# Altium footprint library AHT30.PcbLib: 1 footprints
Each footprint in its own frame and in the unit in brackets; x right, y up, seen from the top. Pads: shape width x height; smd on the part's side, far side on the other; paste and mask are expansions set on the pad; w line width, h text height; cw(c..) or ccw(c..) is an arc to the next point about the centre after c.
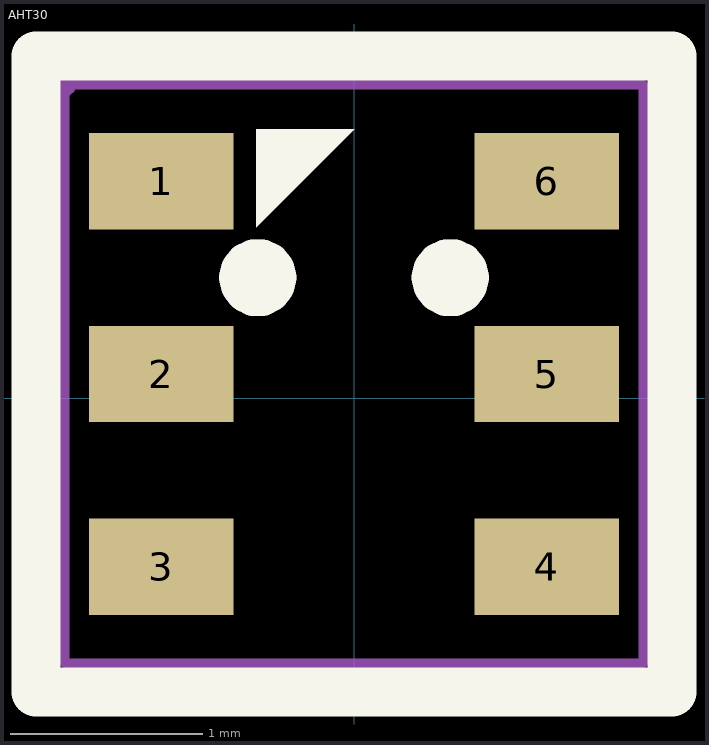
[diagram p0: the footprint, top view; thin cyan lines are the x and y axes]

## AHT30 [mil]
pads (6):
  rect 29.5x19.7 smd: 1(-39.4,44.4) 2(-39.4,5) 3(-39.4,-34.4) 4(39.4,-34.4) 5(39.4,5) 6(39.4,44.4)
Top Overlay:
  region: -20,35 -20,55 0,55
  lines w7.9: -23.6,24.7 -23.2,23 -22.1,21.6 -20.6,20.8 -18.8,20.8 -17.2,21.6 -16.1,23 -15.7,24.7 -16.1,26.4 -17.2,27.8 -18.8,28.5 -20.6,28.5 -22.1,27.8 -23.2,26.4 -23.6,24.7 ; 15.7,24.7 16.1,23 17.2,21.6 18.8,20.8 20.6,20.8 22.1,21.6 23.2,23 23.6,24.7 23.2,26.4 22.1,27.8 20.6,28.5 18.8,28.5 17.2,27.8 16.1,26.4 15.7,24.7
  lines w10: -65,-60 -65,70 65,70 65,-60 -65,-60
Mechanical 2:
  region: -20,35 -20,55 0,55
  lines w7.9: -23.6,24.7 -23.2,23 -22.1,21.6 -20.6,20.8 -18.8,20.8 -17.2,21.6 -16.1,23 -15.7,24.7 -16.1,26.4 -17.2,27.8 -18.8,28.5 -20.6,28.5 -22.1,27.8 -23.2,26.4 -23.6,24.7 ; 15.7,24.7 16.1,23 17.2,21.6 18.8,20.8 20.6,20.8 22.1,21.6 23.2,23 23.6,24.7 23.2,26.4 22.1,27.8 20.6,28.5 18.8,28.5 17.2,27.8 16.1,26.4 15.7,24.7
Mechanical 6:
  lines w2: -59.1,-54.1 -59.1,64.1 59.1,64.1 59.1,-54.1 -59.1,-54.1
Mechanical 8:
  region: -56.7,64.1 -57.1,62.8 -58.1,61.9 -59.4,61.7 -60.6,62.3 -61.3,63.4 -61.3,64.7 -60.6,65.8 -59.4,66.4 -58.1,66.2 -57.1,65.3
Mechanical 9:
  region: -51.2,-26.5 -51.2,-42.2 -27.6,-42.2 -27.6,-26.5
  region: 27.6,-26.5 27.6,-42.2 51.2,-42.2 51.2,-26.5
  region: -51.2,12.9 -51.2,-2.9 -27.6,-2.9 -27.6,12.9
  region: 27.6,12.9 27.6,-2.9 51.2,-2.9 51.2,12.9
  region: -51.2,52.2 -51.2,36.5 -27.6,36.5 -27.6,52.2
  region: 27.6,52.2 27.6,36.5 51.2,36.5 51.2,52.2